# Altium footprint library Potentiometer_THT.PcbLib: 106 footprints (part 4 of 7)
Each footprint in its own frame and in the unit in brackets; x right, y up, seen from the top. Pads: shape width x height; smd on the part's side, far side on the other; paste and mask are expansions set on the pad; w line width, h text height; cw(c..) or ccw(c..) is an arc to the next point about the centre after c.
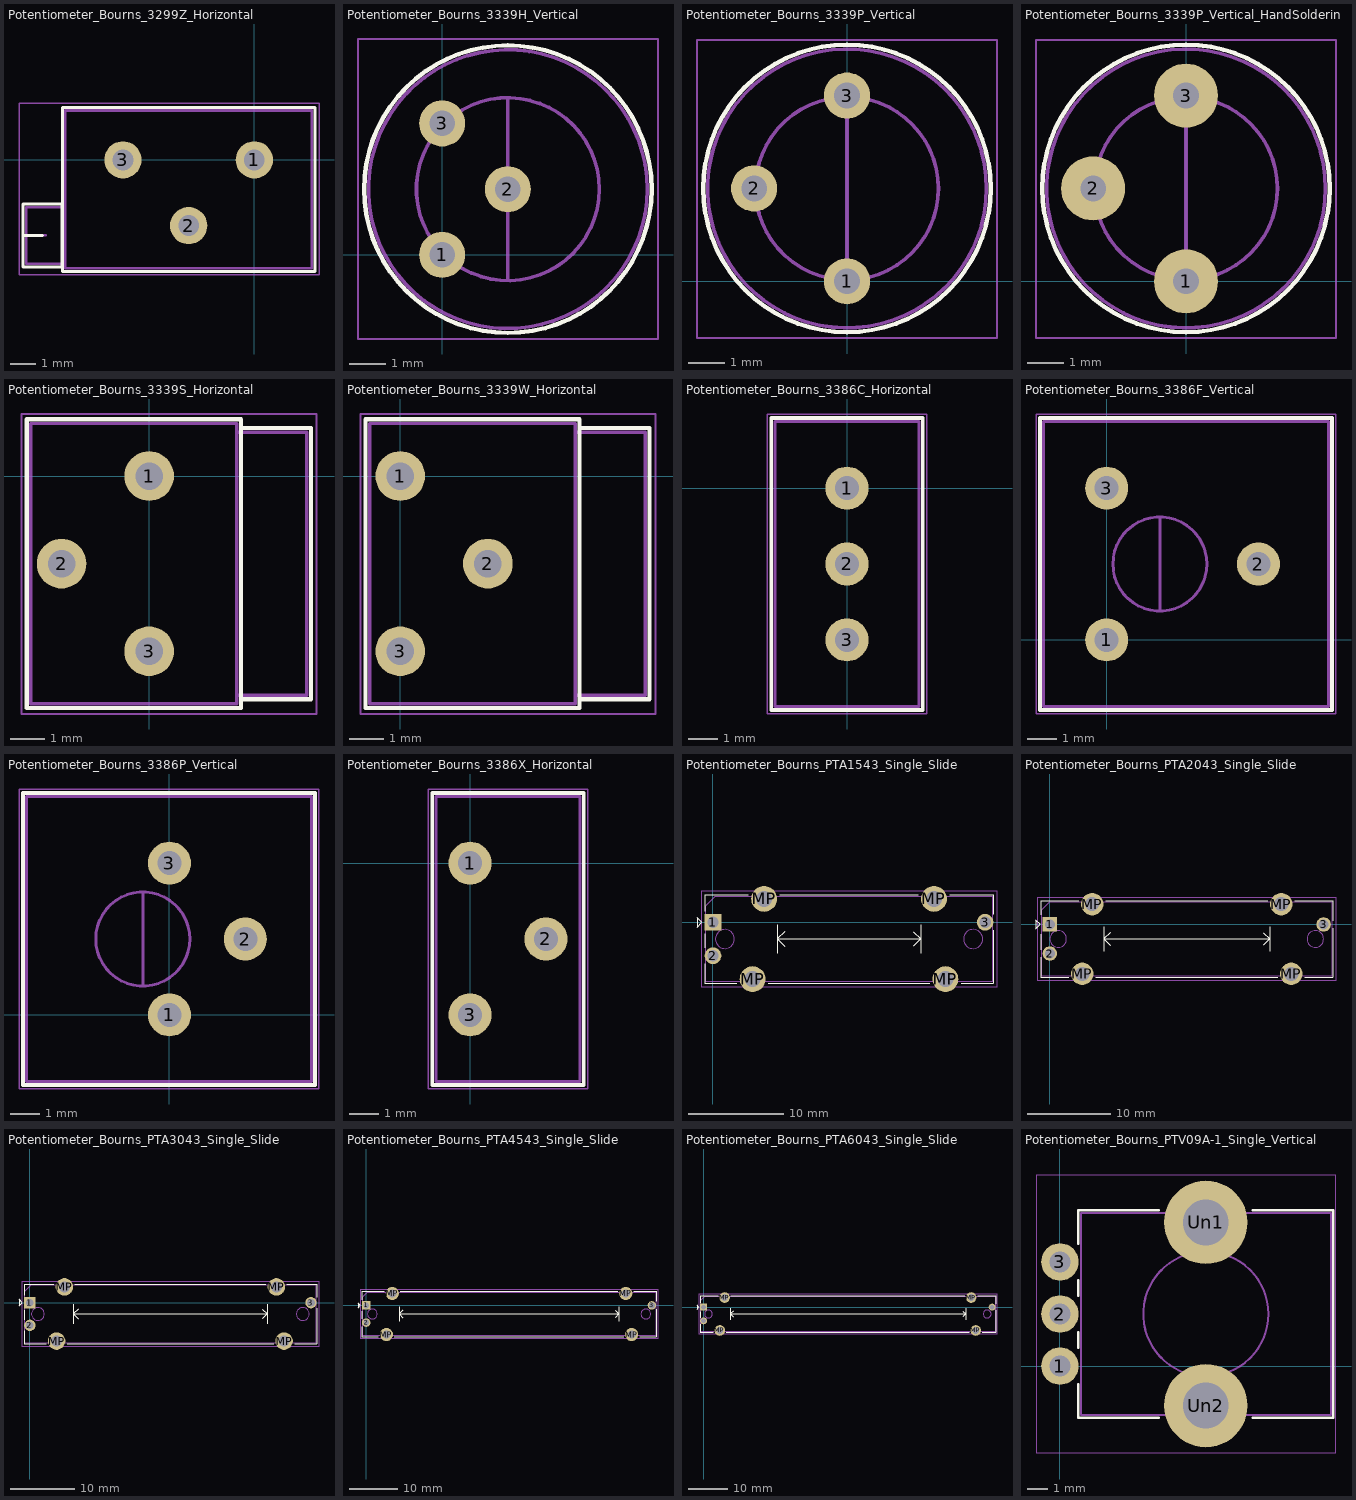
[diagram p3: the footprints below, top view; thin cyan lines are the x and y axes]

## Potentiometer_Bourns_3299Z_Horizontal [mm]
pads (3):
  round 1.44 hole 0.8: 1(0,0) 2(-2.54,-2.54) 3(-5.08,0)
F.SilkS:
  lines w0.12: -8.945,-2.92 -8.186,-2.92 ; -8.945,-4.135 -7.426,-4.135 -7.426,-1.705 -8.945,-1.705 -8.945,-4.135 ; -7.425,-4.31 -7.425,2.03 2.345,2.03 2.345,-4.31 -7.425,-4.31
F.CrtYd:
  lines w0.05: -9.1,-4.45 2.5,-4.45 2.5,2.2 -9.1,2.2 -9.1,-4.45
F.Fab:
  lines w0.1: -8.825,-2.92 -8.065,-2.92 ; -8.825,-4.015 -7.305,-4.015 -7.305,-1.825 -8.825,-1.825 -8.825,-4.015 ; -7.305,-4.19 2.225,-4.19 2.225,1.91 -7.305,1.91 -7.305,-4.19
  text "'.Designator'" at -6.587,-1.98 h1

## Potentiometer_Bourns_3339H_Vertical [mm]
pads (3):
  round 1.26 hole 0.7: 1(0,0) 2(1.796,1.796) 3(0,3.592)
F.SilkS:
  circle w0.12: c1.797,1.795 r3.93
F.CrtYd:
  lines w0.05: -2.3,-2.3 5.9,-2.3 5.9,5.9 -2.3,5.9 -2.3,-2.3
F.Fab:
  circle w0.1: c1.796,1.796 r3.81
  circle w0.1: c1.797,1.795 r2.5
  lines w0.1: 1.797,-0.68 1.797,4.271 1.797,-0.68
  text "'.Designator'" at -0.616,-0.926 h0.66

## Potentiometer_Bourns_3339P_Vertical [mm]
pads (3):
  round 1.26 hole 0.7: 1(0,0) 2(-2.54,2.54) 3(0,5.08)
F.SilkS:
  circle w0.12: c0,2.54 r3.93
F.CrtYd:
  lines w0.05: -4.1,-1.55 -4.1,6.6 4.1,6.6 4.1,-1.55 -4.1,-1.55
F.Fab:
  circle w0.1: c0,2.54 r3.81
  circle w0.1: c0,2.54 r2.5
  lines w0.1: 0,0.064 0.001,5.014 0,0.064
  text "'.Designator'" at -2.412,-0.182 h0.66

## Potentiometer_Bourns_3339P_Vertical_HandSoldering [mm]
pads (3):
  round 1.75 hole 0.7: 1(0,0) 2(-2.54,2.54) 3(0,5.08)
F.SilkS:
  circle w0.12: c0,2.54 r3.93
F.CrtYd:
  lines w0.05: -4.1,-1.55 4.1,-1.55 4.1,6.6 -4.1,6.6 -4.1,-1.55
F.Fab:
  circle w0.1: c0,2.54 r3.81
  circle w0.1: c0,2.54 r2.5
  lines w0.1: 0,0.064 0.001,5.014 0,0.064
  text "'.Designator'" at -2.412,-0.182 h0.66

## Potentiometer_Bourns_3339S_Horizontal [mm]
pads (3):
  round 1.44 hole 0.8: 1(0,0) 2(-2.54,-2.54) 3(0,-5.08)
F.SilkS:
  lines w0.12: -3.55,-6.725 2.66,-6.725 2.66,1.646 -3.55,1.646 -3.55,-6.725 ; 2.66,-6.471 4.69,-6.471 4.69,1.39 2.66,1.39 2.66,-6.471
F.CrtYd:
  lines w0.05: -3.7,-6.9 -3.7,1.8 4.85,1.8 4.85,-6.9 -3.7,-6.9
F.Fab:
  lines w0.1: -3.43,-6.605 -3.43,1.525 2.54,1.525 2.54,-6.605 -3.43,-6.605 ; 2.54,-6.35 4.57,-6.35 4.57,1.27 2.54,1.27 2.54,-6.35
  text "'.Designator'" at -4.492,-3.38 h1

## Potentiometer_Bourns_3339W_Horizontal [mm]
pads (3):
  round 1.44 hole 0.8: 1(0,0) 2(2.54,-2.54) 3(0,-5.08)
F.SilkS:
  lines w0.12: -1.01,-6.725 -1.01,1.646 5.2,1.646 5.2,-6.725 -1.01,-6.725 ; 5.2,-6.471 7.23,-6.471 7.23,1.39 5.2,1.39 5.2,-6.471
F.CrtYd:
  lines w0.05: -1.15,-6.9 -1.15,1.8 7.4,1.8 7.4,-6.9 -1.15,-6.9
F.Fab:
  lines w0.1: -0.89,-6.605 -0.89,1.525 5.08,1.525 5.08,-6.605 -0.89,-6.605 ; 5.08,-6.35 7.11,-6.35 7.11,1.27 5.08,1.27 5.08,-6.35
  text "'.Designator'" at -1.952,-3.38 h1

## Potentiometer_Bourns_3386C_Horizontal [mm]
pads (3):
  round 1.44 hole 0.8: 1(0,0) 2(0,-2.54) 3(0,-5.08)
F.SilkS:
  lines w0.12: -2.535,-7.425 2.535,-7.425 2.535,2.345 -2.535,2.345 -2.535,-7.425
F.CrtYd:
  lines w0.05: -2.67,-7.56 2.67,-7.56 2.67,2.48 -2.67,2.48 -2.67,-7.56
F.Fab:
  lines w0.1: -2.415,-7.305 2.415,-7.305 2.415,2.225 -2.415,2.225 -2.415,-7.305
  text "'.Designator'" at -4.047,-3.38 h1

## Potentiometer_Bourns_3386F_Vertical [mm]
pads (3):
  round 1.44 hole 0.8: 1(0,0) 2(5.08,2.54) 3(0,5.08)
F.SilkS:
  lines w0.12: -2.23,-2.345 7.54,-2.345 7.54,7.425 -2.23,7.425 -2.23,-2.345
F.CrtYd:
  lines w0.05: -2.36,-2.48 -2.36,7.56 7.67,7.56 7.67,-2.48 -2.36,-2.48
F.Fab:
  circle w0.1: c1.781,2.54 r1.575
  lines w0.1: -2.11,-2.225 7.42,-2.225 7.42,7.305 -2.11,7.305 -2.11,-2.225 ; 1.781,0.98 1.781,4.099 1.781,0.98
  text "'.Designator'" at -0.27,-1.507 h1

## Potentiometer_Bourns_3386P_Vertical [mm]
pads (3):
  round 1.44 hole 0.8: 1(0,0) 2(2.54,2.54) 3(0,5.08)
F.SilkS:
  lines w0.12: -4.9,-2.345 -4.9,7.425 4.87,7.425 4.87,-2.345 -4.9,-2.345
F.CrtYd:
  lines w0.05: -5.03,-2.48 -5.03,7.56 5,7.56 5,-2.48 -5.03,-2.48
F.Fab:
  circle w0.1: c-0.891,2.54 r1.575
  lines w0.1: -4.78,-2.225 4.75,-2.225 4.75,7.305 -4.78,7.305 -4.78,-2.225 ; -0.891,0.98 -0.89,4.099 -0.891,0.98
  text "'.Designator'" at -2.94,-1.507 h1

## Potentiometer_Bourns_3386X_Horizontal [mm]
pads (3):
  round 1.44 hole 0.8: 1(0,0) 2(2.54,-2.54) 3(0,-5.08)
F.SilkS:
  lines w0.12: -1.265,-7.425 3.805,-7.425 3.805,2.345 -1.265,2.345 -1.265,-7.425
F.CrtYd:
  lines w0.05: -1.4,-7.56 -1.4,2.48 3.94,2.48 3.94,-7.56 -1.4,-7.56
F.Fab:
  lines w0.1: -1.145,-7.305 -1.145,2.225 3.685,2.225 3.685,-7.305 -1.145,-7.305
  text "'.Designator'" at -2.777,-3.38 h1

## Potentiometer_Bourns_PTA1543_Single_Slide [mm]
pads (7):
  rect 1.75x1.75 hole 1.2: 1(0,0)
  round 1.75 hole 1.2: 2(0,-3.5) 3(28.5,0)
  round 2.7 hole 1.7: MP(4.15,-5.95) MP(5.35,2.45) MP(23.15,2.45) MP(24.35,-5.95)
F.SilkS:
  lines w0.12: -0.87,-4.323 -0.87,-6.37 2.515,-6.37 ; -0.87,-2.678 -0.87,-1.175 ; -0.87,1.175 -0.87,2.87 3.715,2.87 ; 5.786,-6.37 22.715,-6.37 ; 6.75,-3.25 6.75,-0.25 ; 6.986,2.87 21.515,2.87 ; 7.5,-2.5 6.75,-1.75 ; 7.5,-1 6.75,-1.75 ; 21,-2.5 21.75,-1.75 ; 21,-1 21.75,-1.75 ; 21.75,-3.25 21.75,-0.25 ; 24.786,2.87 29.37,2.87 29.37,0.823 ; 25.986,-6.37 29.37,-6.37 29.37,-0.823 ; 6.75,-1.75 21.75,-1.75 ; -1.675,-0.5 -1.175,0 -1.675,0.5 -1.675,-0.5
F.CrtYd:
  lines w0.05: -1.25,-6.75 29.75,-6.75 29.75,3.25 -1.25,3.25 -1.25,-6.75
F.Fab:
  circle w0.1: c1.25,-1.75 r1
  circle w0.1: c27.25,-1.75 r1
  lines w0.1: -0.75,-6.25 -0.75,1.75 0.25,2.75 29.25,2.75 29.25,-6.25 -0.75,-6.25
  text "'.Designator'" at 10.203,-2.59 h1

## Potentiometer_Bourns_PTA2043_Single_Slide [mm]
pads (7):
  rect 1.75x1.75 hole 1.2: 1(0,0)
  round 1.75 hole 1.2: 2(0,-3.5) 3(33,0)
  round 2.7 hole 1.7: MP(3.9,-5.95) MP(5.1,2.45) MP(27.9,2.45) MP(29.1,-5.95)
F.SilkS:
  lines w0.12: -1.12,-3.956 -1.12,-6.37 2.265,-6.37 ; -1.12,-3.045 -1.12,-1.175 ; -1.12,1.175 -1.12,2.87 3.465,2.87 ; 5.536,-6.37 27.465,-6.37 ; 6.5,-3.25 6.5,-0.25 ; 6.736,2.87 26.265,2.87 ; 7.25,-2.5 6.5,-1.75 ; 7.25,-1 6.5,-1.75 ; 25.75,-2.5 26.5,-1.75 ; 25.75,-1 26.5,-1.75 ; 26.5,-3.25 26.5,-0.25 ; 29.536,2.87 34.12,2.87 34.12,0.456 ; 30.736,-6.37 34.12,-6.37 34.12,-0.456 ; 6.5,-1.75 26.5,-1.75 ; -1.675,-0.5 -1.175,0 -1.675,0.5 -1.675,-0.5
F.CrtYd:
  lines w0.05: -1.5,-6.75 34.5,-6.75 34.5,3.25 -1.5,3.25 -1.5,-6.75
F.Fab:
  circle w0.1: c32,-1.75 r1
  circle w0.1: c1,-1.75 r1
  lines w0.1: -1,-6.25 -1,1.75 0,2.75 34,2.75 34,-6.25 -1,-6.25
  text "'.Designator'" at 12.453,-2.59 h1

## Potentiometer_Bourns_PTA3043_Single_Slide [mm]
pads (7):
  rect 1.75x1.75 hole 1.2: 1(0,0)
  round 1.75 hole 1.2: 2(0,-3.5) 3(43.5,0)
  round 2.7 hole 1.7: MP(4.15,-5.95) MP(5.35,2.45) MP(38.15,2.45) MP(39.35,-5.95)
F.SilkS:
  lines w0.12: -0.87,-4.323 -0.87,-6.37 2.515,-6.37 ; -0.87,-2.678 -0.87,-1.175 ; -0.87,1.175 -0.87,2.87 3.715,2.87 ; 5.786,-6.37 37.715,-6.37 ; 6.75,-3.25 6.75,-0.25 ; 6.986,2.87 36.515,2.87 ; 7.5,-2.5 6.75,-1.75 ; 7.5,-1 6.75,-1.75 ; 36,-2.5 36.75,-1.75 ; 36,-1 36.75,-1.75 ; 36.75,-3.25 36.75,-0.25 ; 39.786,2.87 44.37,2.87 44.37,0.823 ; 40.986,-6.37 44.37,-6.37 44.37,-0.823 ; 6.75,-1.75 36.75,-1.75 ; -1.675,-0.5 -1.175,0 -1.675,0.5 -1.675,-0.5
F.CrtYd:
  lines w0.05: -1.25,-6.75 -1.25,3.25 44.75,3.25 44.75,-6.75 -1.25,-6.75
F.Fab:
  circle w0.1: c42.25,-1.75 r1
  circle w0.1: c1.25,-1.75 r1
  lines w0.1: -0.75,-6.25 -0.75,1.75 0.25,2.75 44.25,2.75 44.25,-6.25 -0.75,-6.25
  text "'.Designator'" at 17.703,-2.59 h1

## Potentiometer_Bourns_PTA4543_Single_Slide [mm]
pads (7):
  rect 1.75x1.75 hole 1.2: 1(0,0)
  round 1.75 hole 1.2: 2(0,-3.5) 3(58.5,0)
  round 2.7 hole 1.7: MP(4.15,-5.95) MP(5.35,2.45) MP(53.15,2.45) MP(54.35,-5.95)
F.SilkS:
  lines w0.12: -0.87,-4.323 -0.87,-6.37 2.515,-6.37 ; -0.87,-2.678 -0.87,-1.175 ; -0.87,1.175 -0.87,2.87 3.715,2.87 ; 5.786,-6.37 52.715,-6.37 ; 6.75,-3.25 6.75,-0.25 ; 6.986,2.87 51.515,2.87 ; 7.5,-2.5 6.75,-1.75 ; 7.5,-1 6.75,-1.75 ; 51,-2.5 51.75,-1.75 ; 51,-1 51.75,-1.75 ; 51.75,-3.25 51.75,-0.25 ; 54.786,2.87 59.37,2.87 59.37,0.823 ; 55.986,-6.37 59.37,-6.37 59.37,-0.823 ; 6.75,-1.75 51.75,-1.75 ; -1.675,-0.5 -1.675,0.5 -1.175,0 -1.675,-0.5
F.CrtYd:
  lines w0.05: -1.25,-6.75 -1.25,3.25 59.75,3.25 59.75,-6.75 -1.25,-6.75
F.Fab:
  circle w0.1: c57.25,-1.75 r1
  circle w0.1: c1.25,-1.75 r1
  lines w0.1: -0.75,-6.25 -0.75,1.75 0.25,2.75 59.25,2.75 59.25,-6.25 -0.75,-6.25
  text "'.Designator'" at 25.203,-2.59 h1

## Potentiometer_Bourns_PTA6043_Single_Slide [mm]
pads (7):
  rect 1.75x1.75 hole 1.2: 1(0,0)
  round 1.75 hole 1.2: 2(0,-3.5) 3(73.5,0)
  round 2.7 hole 1.7: MP(4.15,-5.95) MP(5.35,2.45) MP(68.15,2.45) MP(69.35,-5.95)
F.SilkS:
  lines w0.12: -0.87,-4.323 -0.87,-6.37 2.515,-6.37 ; -0.87,-2.678 -0.87,-1.175 ; -0.87,1.175 -0.87,2.87 3.715,2.87 ; 5.786,-6.37 67.715,-6.37 ; 6.75,-3.25 6.75,-0.25 ; 6.986,2.87 66.515,2.87 ; 7.5,-2.5 6.75,-1.75 ; 7.5,-1 6.75,-1.75 ; 66,-2.5 66.75,-1.75 ; 66,-1 66.75,-1.75 ; 66.75,-3.25 66.75,-0.25 ; 69.786,2.87 74.37,2.87 74.37,0.823 ; 70.986,-6.37 74.37,-6.37 74.37,-0.823 ; 6.75,-1.75 66.75,-1.75 ; -1.675,-0.5 -1.175,0 -1.675,0.5 -1.675,-0.5
F.CrtYd:
  lines w0.05: -1.25,-6.75 74.75,-6.75 74.75,3.25 -1.25,3.25 -1.25,-6.75
F.Fab:
  circle w0.1: c72.25,-1.75 r1
  circle w0.1: c1.25,-1.75 r1
  lines w0.1: -0.75,-6.25 74.25,-6.25 74.25,2.75 0.25,2.75 -0.75,1.75 -0.75,-6.25
  text "'.Designator'" at 32.703,-2.59 h1

## Potentiometer_Bourns_PTV09A-1_Single_Vertical [mm]
pads (5):
  round 1.8 hole 1: 1(0,0) 2(0,2.5) 3(0,5)
  round 4 hole 2.2: Un1(7,6.9) Un2(7,-1.9)
F.SilkS:
  lines w0.12: 0.88,-0.87 0.88,-2.47 4.745,-2.47 ; 0.88,0.87 0.88,1.629 ; 0.88,3.37 0.88,4.129 ; 0.88,5.871 0.88,7.47 4.745,7.47 ; 9.255,-2.47 13.12,-2.47 13.12,7.47 9.255,7.47
F.CrtYd:
  lines w0.05: -1.15,-4.15 13.25,-4.15 13.25,9.15 -1.15,9.15 -1.15,-4.15
F.Fab:
  circle w0.1: c7,2.5 r3
  lines w0.1: 1,-2.35 13,-2.35 13,7.35 1,7.35 1,-2.35
  text "'.Designator'" at 2.84,-1.547 h1